# EAGLE library part OPA350UA (library opa350ua)
High-Speed, Single-Supply, Rail-to-Rail OPERATIONAL AMPLIFIERS MicroAmplifier Series
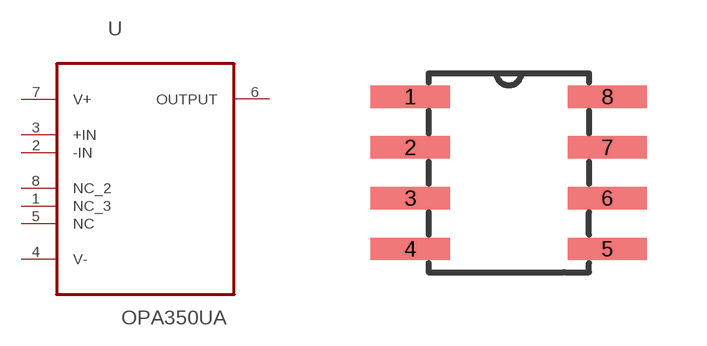
[diagram p0: symbol with the pads of SOIC127P600X175-8N; footprint SOIC127P600X175-8N]

Designator prefix U

## OPA350UA (MPN: OPA350UA; OC_FARNELL: 1106197; OC_NEWARK: 35C1894; PACKAGE: SOIC-8; SUPPLIER: Texas Instruments)  [SOIC127P600X175-8N]
1  NC_3  nc
2  -IN  in
3  +IN  in
4  V-  pwr
5  NC  nc
6  OUTPUT  out
7  V+  pwr
8  NC_2  nc

## Footprint SOIC127P600X175-8N (pad centres in mm)
smd 1.981 x 0.559: 1 -2.464,1.905; 2 -2.464,0.635; 3 -2.464,-0.635; 4 -2.464,-1.905; 5 2.464,-1.905; 6 2.464,-0.635; 7 2.464,0.635; 8 2.464,1.905